# Altium integrated library BQ51050BRHLR.IntLib: 1 symbol
Pins are listed as number, name and electrical type; pins without a type are passive.

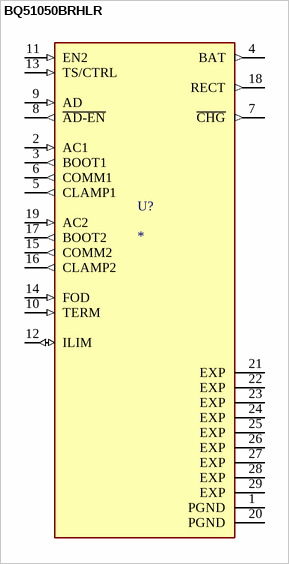
[diagram p0: symbol BQ51050BRHLR]

## BQ51050BRHLR
designator U?
Qi (WPC) Compliant Highly integrated Secondary-Side Direct Lithium Ion charger. 20-VQFN 0 to 125; MP: BQ51050BRHLR; MF: Texas Instruments; Availability: Good; Package: VQFN-20 Texas Instruments; Purchase-URL: https://pricing.snapeda.com/search/part/BQ51050BRHLR/?ref=eda; SnapEDA_Link: https://www.snapeda.com/parts/BQ51050BRHLR/Texas%20Instruments/view-part/472711/?ref=snap; Price: None; Check_prices: https://www.snapeda.com/parts/BQ51050BRHLR/Texas%20Instruments/view-part/472711/?ref=eda; Value: *
footprint IC_BQ51050BRHLR
pins: 1 PGND (power), 2 AC1 (in), 3 BOOT1 (out), 4 BAT (out), 5 CLAMP1 (out), 6 COMM1 (out), 7 ~{CHG} (out), 8 ~{AD-EN} (out), 9 AD (in), 10 TERM (in), 11 EN2 (in), 12 ILIM (io), 13 TS/CTRL (in), 14 FOD (in), 15 COMM2 (out), 16 CLAMP2 (out), 17 BOOT2 (out), 18 RECT (out), 19 AC2 (in), 20 PGND (power), 21 EXP (power), 22 EXP (power), 23 EXP (power), 24 EXP (power), 25 EXP (power), 26 EXP (power), 27 EXP (power), 28 EXP (power), 29 EXP (power)